# EAGLE library part TL084CN (library IntegratedLib)
JFET AMPOP (4ch) (DIP-14)
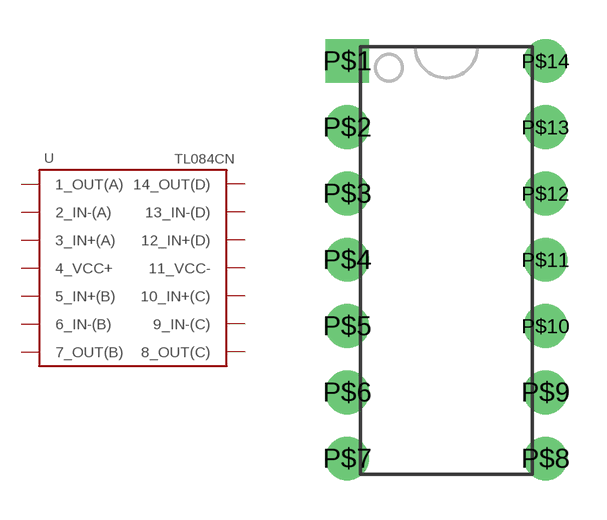
[diagram p33: symbol with the pads of DIP-14; footprint DIP-14]

Designator prefix U

## TL084CN (FABRICANTE: TEXAS INSTRUMENTS; PARTNUMBER: TL084; TIPO: CIRCUITO INTEGRADO)  [DIP-14]
P$1  1_OUT(A)
P$2  2_IN-(A)
P$3  3_IN+(A)
P$4  4_VCC+
P$5  5_IN+(B)
P$6  6_IN-(B)
P$7  7_OUT(B)
P$8  8_OUT(C)
P$9  9_IN-(C)
P$10  10_IN+(C)
P$11  11_VCC-
P$12  12_IN+(D)
P$13  13_IN-(D)
P$14  14_OUT(D)

## Footprint DIP-14 (pad centres in mm)
drill 1 pad 1.676 square: P$1 -3.8,7.62
drill 1 pad 1.676: P$2 -3.8,5.08; P$3 -3.8,2.54; P$4 -3.8,0; P$5 -3.8,-2.54; P$6 -3.8,-5.08; P$7 -3.8,-7.62; P$8 3.8,-7.62; P$9 3.8,-5.08; P$10 3.8,-2.54; P$11 3.8,0; P$12 3.8,2.54; P$13 3.8,5.08; P$14 3.8,7.62